# Altium schematic symbol library Microcircuits.SchLib: 36 symbols
Pins are listed as number, name and electrical type; pins without a type are passive.

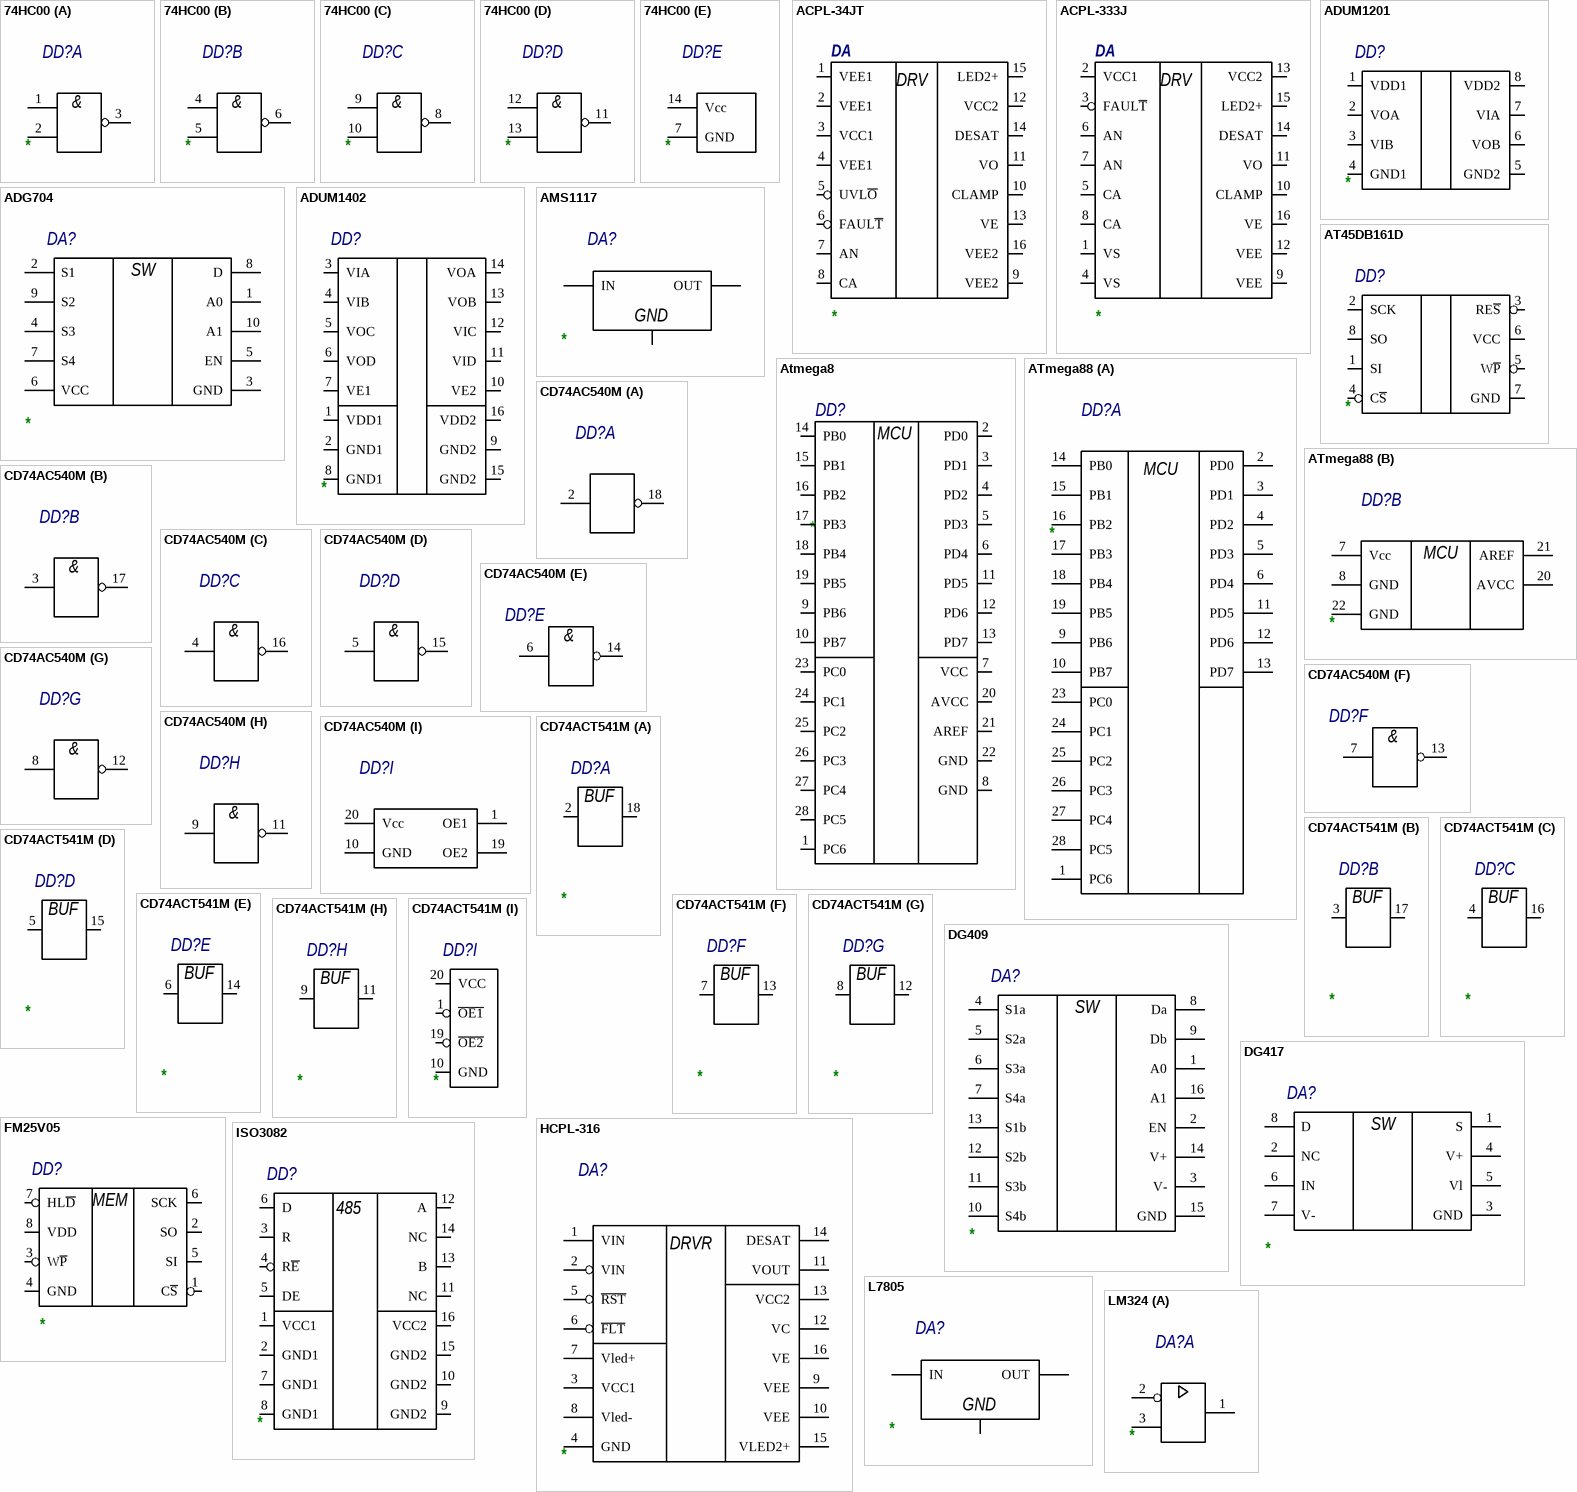
[diagram p0: symbols 74HC00 to LM324]

## 74HC00
designator DD?
ValueManufacturer: *; ValueType: *; ValueManufacturerPartNumber: *
part A pins: 1 1A, 2 1B, 3 1Y
part B pins: 4 2A, 5 2B, 6 2Y
part C pins: 8 3Y, 9 3A, 10 3B
part D pins: 11 4Y, 12 4A, 13 4B
part E pins: 7 GND (power), 14 Vcc (power)
part A text: &
part B text: &
part C text: &
part D text: &

## ACPL-34JT
designator DA  (value not drawn)
ValueManufacturer: *; ValueType: *; ValueManufacturerPartNumber: *
pins: 1 VEE1, 2 VEE1, 3 VCC1, 4 VEE1, 5 UVL~{O}, 6 FAUL~{T}, 7 AN, 8 CA, 9 VEE2, 10 CLAMP, 11 VO, 12 VCC2, 13 VE, 14 DESAT, 15 LED2+, 16 VEE2
text: DRV

## ACPL-333J
designator DA  (value not drawn)
ValueManufacturer: *; ValueType: *; ValueManufacturerPartNumber: *
pins: 1 VS, 2 VCC1, 3 FAUL~{T}, 4 VS, 5 CA, 6 AN, 7 AN, 8 CA, 9 VEE, 10 CLAMP, 11 VO, 12 VEE, 13 VCC2, 14 DESAT, 15 LED2+, 16 VE
text: DRV

## ADG704
designator DA?
Analog switch; ValueManufacturer: *; ValueType: *; ValueManufacturerPartNumber: *
pins: 1 A0, 2 S1, 3 GND, 4 S3, 5 EN, 6 VCC, 7 S4, 8 D, 9 S2, 10 A1
text: SW

## ADUM1201
designator DD?
ValueManufacturer: *; ValueType: *; ValueManufacturerPartNumber: *
pins: 1 VDD1 (power), 2 VOA, 3 VIB, 4 GND1 (power), 5 GND2, 6 VOB, 7 VIA, 8 VDD2

## ADUM1402
designator DD?
ValueManufacturer: *; ValueType: *; ValueManufacturerPartNumber: *
pins: 1 VDD1 (power), 2 GND1 (power), 3 VIA, 4 VIB, 5 VOC, 6 VOD, 7 VE1, 8 GND1 (power), 9 GND2, 10 VE2, 11 VID, 12 VIC, 13 VOB, 14 VOA, 15 GND2, 16 VDD2

## AMS1117
designator DA?
ValueManufacturer: *; ValueType: *; ValueManufacturerPartNumber: *
pins: 1 GND (power), 2 OUT (power), 3 IN (power)

## AT45DB161D
designator DD?
Flash mem; ValueManufacturer: *; ValueType: *; ValueManufacturerPartNumber: *
pins: 1 SI, 2 SCK, 3 RE~{S}, 4 C~{S}, 5 W~{P}, 6 VCC (power), 7 GND, 8 SO

## Atmega8
designator DD?
ValueManufacturer: *; ValueType: *; ValueManufacturerPartNumber: *
pins: 1 PC6, 2 PD0, 3 PD1, 4 PD2, 5 PD3, 6 PD4, 7 VCC, 8 GND, 9 PB6, 10 PB7, 11 PD5, 12 PD6, 13 PD7, 14 PB0, 15 PB1, 16 PB2, 17 PB3, 18 PB4, 19 PB5, 20 AVCC, 21 AREF, 22 GND, 23 PC0, 24 PC1, 25 PC2, 26 PC3, 27 PC4, 28 PC5
text: MCU

## ATmega88
designator DD?
ValueManufacturer: *; ValueType: *; ValueManufacturerPartNumber: *
part A pins: 1 PC6, 2 PD0, 3 PD1, 4 PD2, 5 PD3, 6 PD4, 9 PB6, 10 PB7, 11 PD5, 12 PD6, 13 PD7, 14 PB0, 15 PB1, 16 PB2, 17 PB3, 18 PB4, 19 PB5, 23 PC0, 24 PC1, 25 PC2, 26 PC3, 27 PC4, 28 PC5
part B pins: 7 Vcc (power), 8 GND (power), 20 AVCC (power), 21 AREF (power), 22 GND (power)
part A text: MCU
part B text: MCU

## CD74AC540M
designator DD?
Invertering buffer; ValueManufacturer: *; ValueType: *
part A pins: 2 A0, 18 Y0
part B pins: 3 A1, 17 Y1
part C pins: 4 A2, 16 Y2
part D pins: 5 A3, 15 Y3
part E pins: 6 A4, 14 Y4
part F pins: 7 A5, 13 Y5
part G pins: 8 A6, 12 Y6
part H pins: 9 A7, 11 Y7
part I pins: 1 OE1 (power), 10 GND (power), 19 OE2 (power), 20 Vcc (power)
part B text: &
part C text: &
part D text: &
part E text: &
part F text: &
part G text: &
part H text: &

## CD74ACT541M
designator DD?
octal  buffer; ValueManufacturer: *; ValueType: *; ValueManufacturerPartNumber: *
part A pins: 2 IN, 18 OUT
part B pins: 3 IN, 17 OUT
part C pins: 4 IN, 16 OUT
part D pins: 5 IN, 15 OUT
part E pins: 6 IN, 14 OUT
part F pins: 7 IN, 13 OUT
part G pins: 8 IN, 12 OUT
part H pins: 9 IN, 11 OUT
part I pins: 1 ~{OE1}, 10 GND, 19 ~{OE2}, 20 VCC
part A text: BUF
part B text: BUF
part C text: BUF
part D text: BUF
part E text: BUF
part F text: BUF
part G text: BUF
part H text: BUF

## DG409
designator DA?
Analog switch; ValueManufacturer: *; ValueType: *; ValueManufacturerPartNumber: *
pins: 1 A0, 2 EN, 3 V-, 4 S1a, 5 S2a, 6 S3a, 7 S4a, 8 Da, 9 Db, 10 S4b, 11 S3b, 12 S2b, 13 S1b, 14 V+, 15 GND, 16 A1
text: SW

## DG417
designator DA?
Analog switch; ValueManufacturer: *; ValueType: *; ValueManufacturerPartNumber: *
pins: 1 S, 2 NC, 3 GND, 4 V+, 5 Vl, 6 IN, 7 V-, 8 D
text: SW

## FM25V05
designator DD?
FRAM; ValueManufacturer: *; ValueType: *; ValueManufacturerPartNumber: *
pins: 1 C~{S}, 2 SO, 3 W~{P}, 4 GND, 5 SI, 6 SCK, 7 HL~{D}, 8 VDD (power)
text: MEM

## HCPL-316
designator DA?
ValueManufacturer: *; ValueType: *; ValueManufacturerPartNumber: *
pins: 1 VIN, 2 VIN, 3 VCC1 (power), 4 GND (power), 5 ~{RST}, 6 ~{FLT}, 7 Vled+ (power), 8 Vled- (power), 9 VEE (power), 10 VEE (power), 11 VOUT, 12 VC (power), 13 VCC2 (power), 14 DESAT, 15 VLED2+ (power), 16 VE (power)
text: DRVR

## ISO3082
designator DD?
RS485; ValueManufacturer: *; ValueType: *; ValueManufacturerPartNumber: *
pins: 1 VCC1 (power), 2 GND1 (power), 3 R, 4 R~{E}, 5 DE, 6 D, 7 GND1 (power), 8 GND1 (power), 9 GND2 (power), 10 GND2 (power), 11 NC, 12 A, 13 B, 14 NC, 15 GND2 (power), 16 VCC2 (power)
text: 485

## L7805
designator DA?
ValueManufacturer: *; ValueType: *; ValueManufacturerPartNumber: *
pins: 1 IN (power), 2 OUT (power), 3 GND (power)

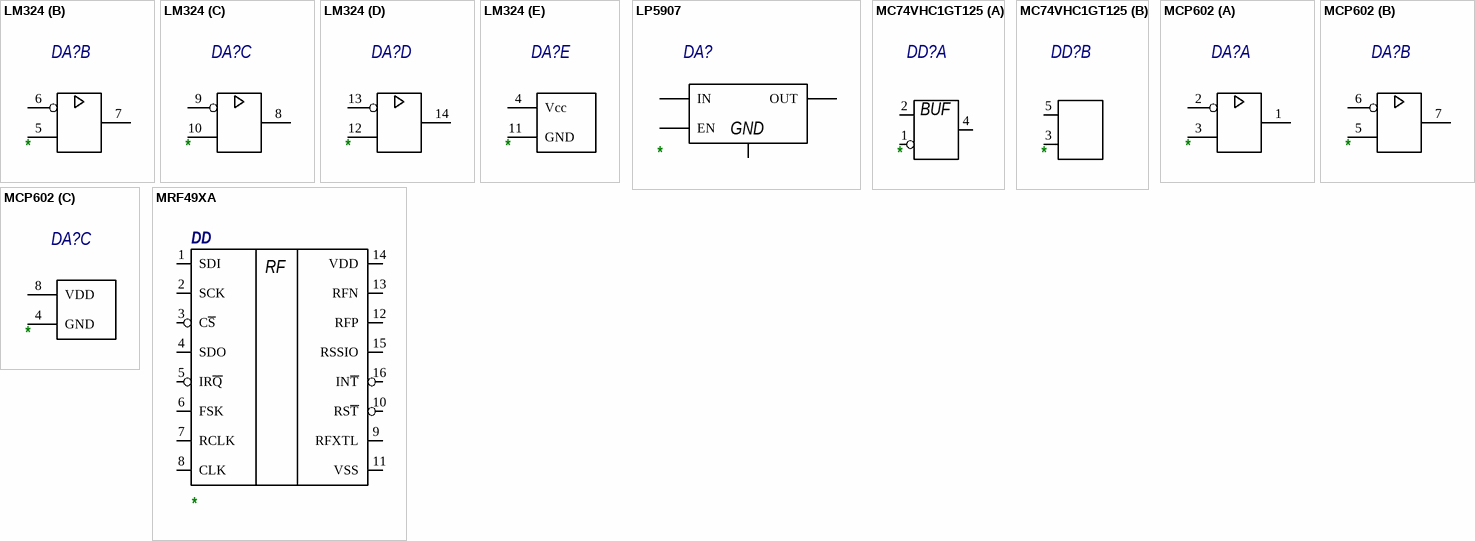
[diagram p1: symbols LM324 to MRF49XA]

## LM324
designator DA?
ValueManufacturer: *; ValueType: *; ValueManufacturerPartNumber: *
part A pins: 1 OUT, 2 IN, 3 IN
part B pins: 5 IN, 6 IN, 7 OUT
part C pins: 8 OUT, 9 IN, 10 IN
part D pins: 12 IN, 13 IN, 14 OUT
part E pins: 4 Vcc (power), 11 GND (power)

## LP5907
designator DA?
LDO; ValueManufacturer: *; ValueType: *; ValueManufacturerPartNumber: *
pins: 1 IN (power), 2 GND (power), 3 EN, 4 NC hidden, 5 OUT (power)

## MC74VHC1GT125
designator DD?
ValueManufacturer: *; ValueType: *; ValueManufacturerPartNumber: *
part A pins: 1 OE, 2 IN, 4 OUT
part B pins: 3 GND (power), 5 VCC (power)
part A text: BUF

## MCP602
designator DA?
Amp 2ch; ValueManufacturer: *; ValueType: *; ValueManufacturerPartNumber: *
part A pins: 1 OUT, 2 IN, 3 IN
part B pins: 5 IN, 6 IN, 7 OUT
part C pins: 4 GND (power), 8 VDD (power)

## MRF49XA
designator DD  (value not drawn)
ValueManufacturer: *; ValueType: *; ValueManufacturerPartNumber: *
pins: 1 SDI, 2 SCK, 3 C~{S}, 4 SDO, 5 IR~{Q}, 6 FSK, 7 RCLK, 8 CLK, 9 RFXTL, 10 RS~{T}, 11 VSS, 12 RFP, 13 RFN, 14 VDD, 15 RSSIO, 16 IN~{T}
text: RF

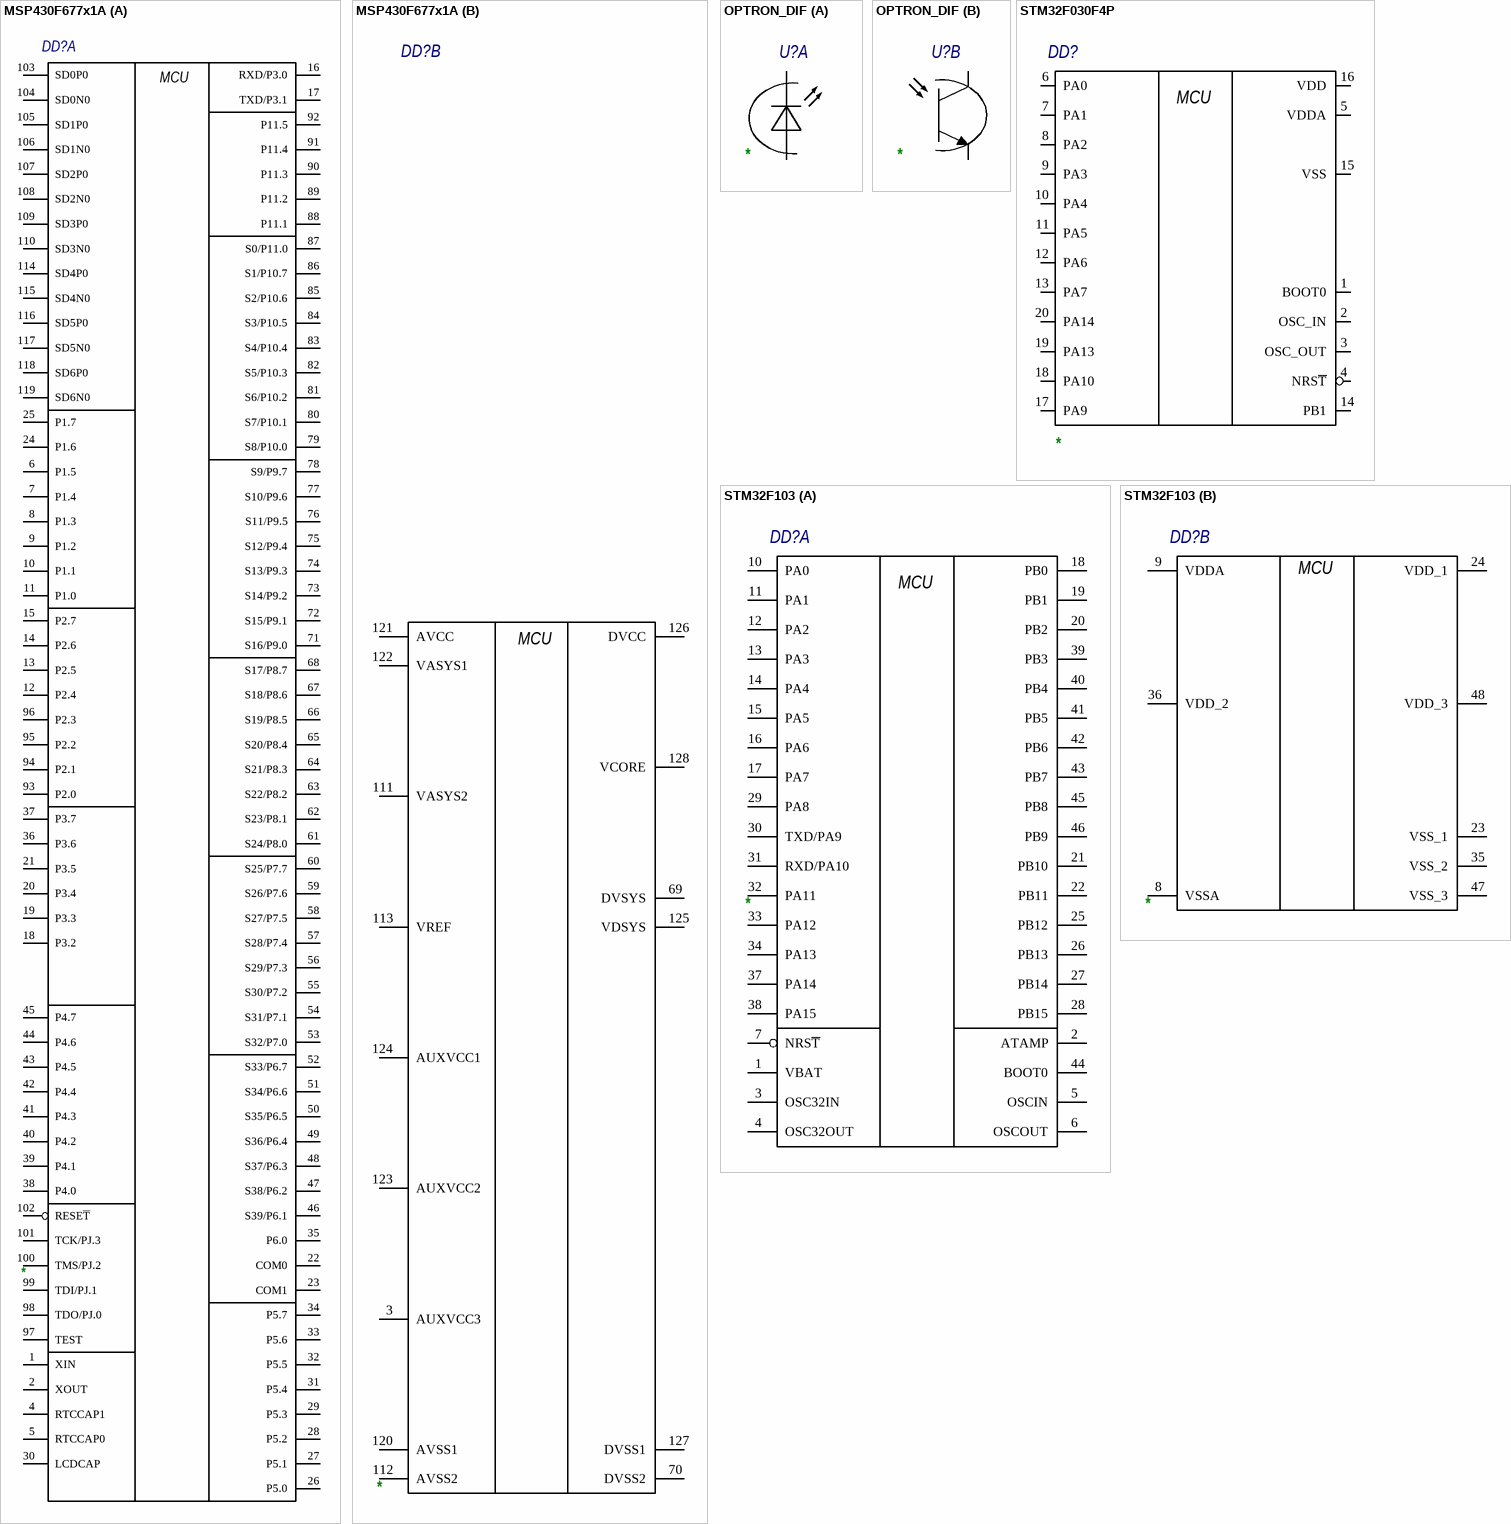
[diagram p2: symbols MSP430F677x1A to STM32F103]

## MSP430F677x1A
designator DD?
ValueManufacturer: *; ValueType: *; ValueManufacturerPartNumber: *
part A pins: 1 XIN, 2 XOUT, 4 RTCCAP1, 5 RTCCAP0, 6 P1.5, 7 P1.4, 8 P1.3, 9 P1.2, 10 P1.1, 11 P1.0, 12 P2.4, 13 P2.5, 14 P2.6, 15 P2.7, 16 RXD/P3.0, 17 TXD/P3.1, 18 P3.2, 19 P3.3, 20 P3.4, 21 P3.5, 22 COM0, 23 COM1, 24 P1.6, 25 P1.7, 26 P5.0, 27 P5.1, 28 P5.2, 29 P5.3, 30 LCDCAP, 31 P5.4, 32 P5.5, 33 P5.6, 34 P5.7, 35 P6.0, 36 P3.6, 37 P3.7, 38 P4.0, 39 P4.1, 40 P4.2, 41 P4.3, 42 P4.4, 43 P4.5, 44 P4.6, 45 P4.7, 46 S39/P6.1, 47 S38/P6.2, 48 S37/P6.3, 49 S36/P6.4, 50 S35/P6.5, 51 S34/P6.6, 52 S33/P6.7, 53 S32/P7.0, 54 S31/P7.1, 55 S30/P7.2, 56 S29/P7.3, 57 S28/P7.4, 58 S27/P7.5, 59 S26/P7.6, 60 S25/P7.7, 61 S24/P8.0, 62 S23/P8.1, 63 S22/P8.2, 64 S21/P8.3, 65 S20/P8.4, 66 S19/P8.5, 67 S18/P8.6, 68 S17/P8.7, 71 S16/P9.0, 72 S15/P9.1, 73 S14/P9.2, 74 S13/P9.3, 75 S12/P9.4, 76 S11/P9.5, 77 S10/P9.6, 78 S9/P9.7, 79 S8/P10.0, 80 S7/P10.1, 81 S6/P10.2, 82 S5/P10.3, 83 S4/P10.4, 84 S3/P10.5, 85 S2/P10.6, 86 S1/P10.7, 87 S0/P11.0, 88 P11.1, 89 P11.2, 90 P11.3, 91 P11.4, 92 P11.5, 93 P2.0, 94 P2.1, 95 P2.2, 96 P2.3, 97 TEST, 98 TDO/PJ.0, 99 TDI/PJ.1, 100 TMS/PJ.2, 101 TCK/PJ.3, 102 RESE~{T}, 103 SD0P0, 104 SD0N0, 105 SD1P0, 106 SD1N0, 107 SD2P0, 108 SD2N0, 109 SD3P0, 110 SD3N0, 114 SD4P0, 115 SD4N0, 116 SD5P0, 117 SD5N0, 118 SD6P0, 119 SD6N0
part B pins: 3 AUXVCC3 (power), 69 DVSYS (power), 70 DVSS2 (power), 111 VASYS2 (power), 112 AVSS2 (power), 113 VREF (power), 120 AVSS1 (power), 121 AVCC (power), 122 VASYS1 (power), 123 AUXVCC2 (power), 124 AUXVCC1 (power), 125 VDSYS (power), 126 DVCC (power), 127 DVSS1 (power), 128 VCORE (power)
part A text: MCU
part B text: MCU

## OPTRON_DIF
designator U?
ValueManufacturer: *; ValueType: *; ValueManufacturerPartNumber: *
part A pins: 1, 2
part B pins: 3, 4

## STM32F030F4P
designator DD?
ValueManufacturer: *; ValueType: *; ValueManufacturerPartNumber: *
pins: 1 BOOT0, 2 OSC_IN, 3 OSC_OUT, 4 NRS~{T}, 5 VDDA, 6 PA0, 7 PA1, 8 PA2, 9 PA3, 10 PA4, 11 PA5, 12 PA6, 13 PA7, 14 PB1, 15 VSS, 16 VDD, 17 PA9, 18 PA10, 19 PA13, 20 PA14
text: MCU

## STM32F103
designator DD?
ValueManufacturer: *; ValueType: *; ValueManufacturerPartNumber: *
part A pins: 1 VBAT (power), 2 ATAMP, 3 OSC32IN, 4 OSC32OUT, 5 OSCIN, 6 OSCOUT, 7 NRS~{T}, 10 PA0, 11 PA1, 12 PA2, 13 PA3, 14 PA4, 15 PA5, 16 PA6, 17 PA7, 18 PB0, 19 PB1, 20 PB2, 21 PB10, 22 PB11, 25 PB12, 26 PB13, 27 PB14, 28 PB15, 29 PA8, 30 TXD/PA9, 31 RXD/PA10, 32 PA11, 33 PA12, 34 PA13, 37 PA14, 38 PA15, 39 PB3, 40 PB4, 41 PB5, 42 PB6, 43 PB7, 44 BOOT0, 45 PB8, 46 PB9
part B pins: 8 VSSA (power), 9 VDDA (power), 23 VSS_1 (power), 24 VDD_1 (power), 35 VSS_2 (power), 36 VDD_2 (power), 47 VSS_3 (power), 48 VDD_3 (power)
part A text: MCU
part B text: MCU

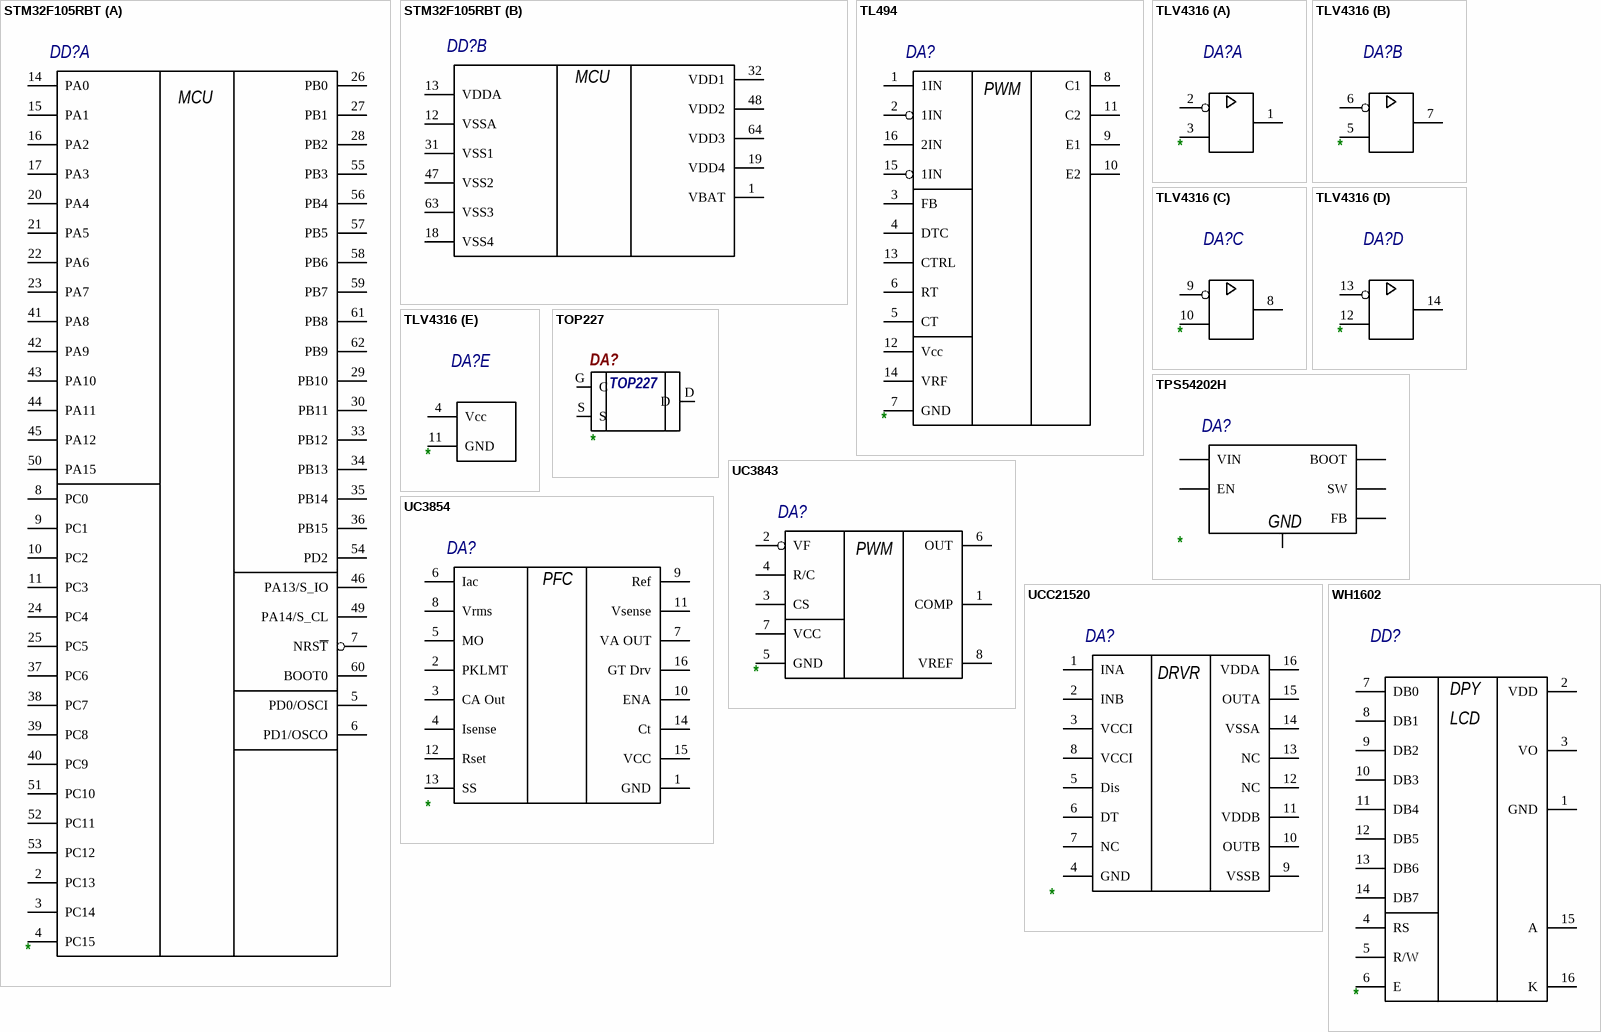
[diagram p3: symbols STM32F105RBT to WH1602]

## STM32F105RBT
designator DD?
ValueManufacturer: *; ValueType: *; ValueManufacturerPartNumber: *
part A pins: 2 PC13, 3 PC14, 4 PC15, 5 PD0/OSCI, 6 PD1/OSCO, 7 NRS~{T}, 8 PC0, 9 PC1, 10 PC2, 11 PC3, 14 PA0, 15 PA1, 16 PA2, 17 PA3, 20 PA4, 21 PA5, 22 PA6, 23 PA7, 24 PC4, 25 PC5, 26 PB0, 27 PB1, 28 PB2, 29 PB10, 30 PB11, 33 PB12, 34 PB13, 35 PB14, 36 PB15, 37 PC6, 38 PC7, 39 PC8, 40 PC9, 41 PA8, 42 PA9, 43 PA10, 44 PA11, 45 PA12, 46 PA13/S_IO, 49 PA14/S_CL, 50 PA15, 51 PC10, 52 PC11, 53 PC12, 54 PD2, 55 PB3, 56 PB4, 57 PB5, 58 PB6, 59 PB7, 60 BOOT0, 61 PB8, 62 PB9
part B pins: 1 VBAT (power), 12 VSSA (power), 13 VDDA (power), 18 VSS4 (power), 19 VDD4 (power), 31 VSS1 (power), 32 VDD1 (power), 47 VSS2 (power), 48 VDD2 (power), 63 VSS3 (power), 64 VDD3 (power)
part A text: MCU
part B text: MCU

## TL494
designator DA?
ValueType: *; ValueManufacturer: *; ValueManufacturerPartNumber: *
pins: 1 1IN, 2 1IN, 3 FB, 4 DTC, 5 CT, 6 RT, 7 GND (power), 8 C1, 9 E1, 10 E2, 11 C2, 12 Vcc (power), 13 CTRL, 14 VRF (power), 15 1IN, 16 2IN
text: PWM

## TLV4316
designator DA?
Amp 4ch; ValueManufacturer: *; ValueType: *; ValueManufacturerPartNumber: *
part A pins: 1 OUT, 2 IN, 3 IN
part B pins: 5 IN, 6 IN, 7 OUT
part C pins: 8 OUT, 9 IN, 10 IN
part D pins: 12 IN, 13 IN, 14 OUT
part E pins: 4 Vcc (power), 11 GND (power)

## TOP227
designator DA?
ValueManufacturer: *; ValueManufacturerPartNumber: *; ValueType: *
pins: D, G C, S

## TPS54202H
designator DA?
Step down; ValueManufacturer: *; ValueType: *; ValueManufacturerPartNumber: *
pins: 1 GND (power), 2 SW (power), 3 VIN (power), 4 FB (power), 5 EN (power), 6 BOOT (power)

## UC3843
designator DA?
PWM controller; ValueManufacturer: *; ValueType: *; ValueManufacturerPartNumber: *
pins: 1 COMP, 2 VF, 3 CS, 4 R/C, 5 GND (power), 6 OUT, 7 VCC (power), 8 VREF (power)
text: PWM

## UC3854
designator DA?
PFC controller; ValueManufacturer: *; ValueType: *; ValueManufacturerPartNumber: *
pins: 1 GND, 2 PKLMT, 3 CA Out, 4 Isense, 5 MO, 6 Iac, 7 VA OUT, 8 Vrms, 9 Ref, 10 ENA, 11 Vsense, 12 Rset, 13 SS, 14 Ct, 15 VCC, 16 GT Drv
text: PFC

## UCC21520
designator DA?
Driver; ValueManufacturer: *; ValueType: *; ValueManufacturerPartNumber: *
pins: 1 INA, 2 INB, 3 VCCI, 4 GND, 5 Dis, 6 DT, 7 NC, 8 VCCI, 9 VSSB, 10 OUTB, 11 VDDB, 12 NC, 13 NC, 14 VSSA, 15 OUTA, 16 VDDA
text: DRVR

## WH1602
designator DD?
LCD; ValueManufacturer: *; ValueType: *; ValueManufacturerPartNumber: *
pins: 1 GND (power), 2 VDD (power), 3 VO (power), 4 RS, 5 R/W, 6 E, 7 DB0, 8 DB1, 9 DB2, 10 DB3, 11 DB4, 12 DB5, 13 DB6, 14 DB7, 15 A (power), 16 K (power)
text: DPY